# EAGLE library part LTC4267 (library ell-i)
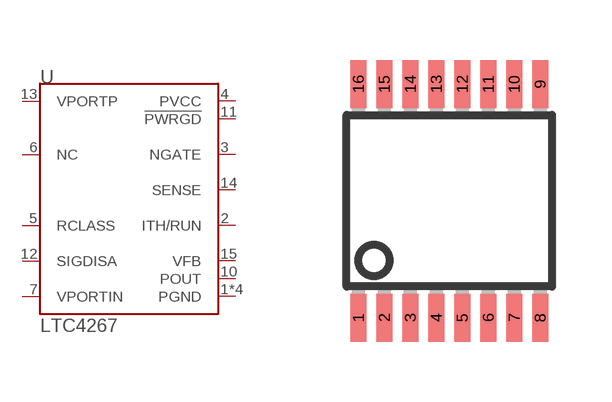
[diagram p2: symbol with the pads of SSOP16; footprint SSOP16]

Designator prefix U

## LTC4267IGN  [SSOP16]
1  PGND
2  ITH/RUN
3  NGATE
4  PVCC
5  RCLASS
6  NC
7  VPORTIN
8  PGND
9  PGND
10  POUT
11  !PWRGD
12  SIGDISA
13  VPORTP
14  SENSE
15  VFB
16  PGND

## Footprint SSOP16 (pad centres in mm)
Small Shrink Outline Package
smd 0.4 x 1.2: 1 -2.275,-2.925; 2 -1.625,-2.925; 3 -0.975,-2.925; 4 -0.325,-2.925; 5 0.325,-2.925; 6 0.975,-2.925; 7 1.625,-2.925; 8 2.275,-2.925; 9 2.275,2.925; 10 1.625,2.925; 11 0.975,2.925; 12 0.325,2.925; 13 -0.325,2.925; 14 -0.975,2.925; 15 -1.625,2.925; 16 -2.275,2.925